# EAGLE library part 24LC256 (library C8051F300)
24LC256 256K I2C CMOS serial EEPROM
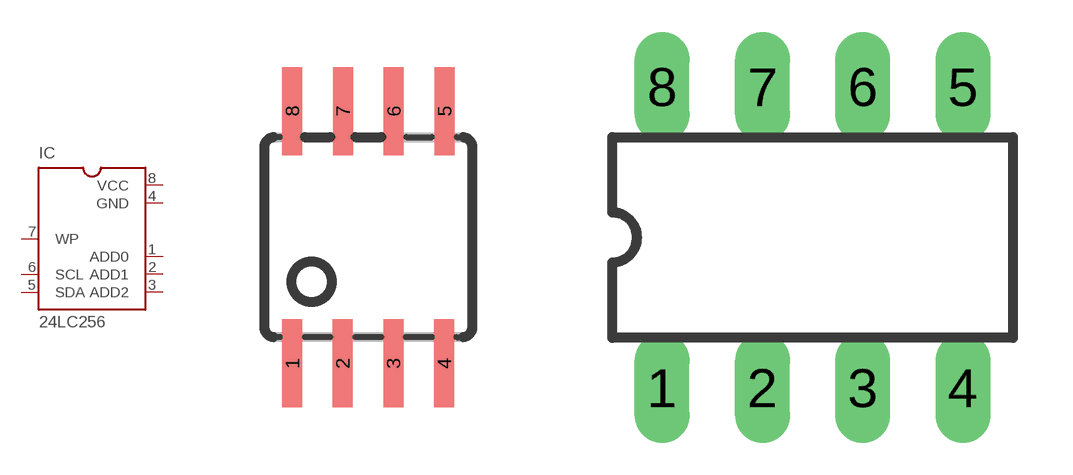
[diagram p2: symbol with the pads of SOIC08; footprints SOIC08, DIL8]

Designator prefix IC

## 24LC256S  [SOIC08]
1  ADD0  in
2  ADD1  in
3  ADD2  in
4  GND  pwr
5  SDA
6  SCL  in
7  WP  pas
8  VCC  pwr

## 24LC256P  [DIL8]
Pads as for SOIC08

## Footprint SOIC08 (pad centres in mm)
smd 0.5 x 2.2: 1 -1.905,-3.154; 2 -0.645,-3.154; 3 0.625,-3.154; 4 1.895,-3.154; 5 1.905,3.154; 6 0.635,3.154; 7 -0.635,3.154; 8 -1.905,3.154

## Footprint DIL8 (pad centres in mm)
drill 0.889 long: 1 -3.81,-3.81; 2 -1.27,-3.81; 3 1.27,-3.81; 4 3.81,-3.81; 5 3.81,3.81; 6 1.27,3.81; 7 -1.27,3.81; 8 -3.81,3.81